# Altium footprint library E33.PcbLib: 1 footprints
Each footprint in its own frame and in the unit in brackets; x right, y up, seen from the top. Pads: shape width x height; smd on the part's side, far side on the other; paste and mask are expansions set on the pad; w line width, h text height; cw(c..) or ccw(c..) is an arc to the next point about the centre after c.
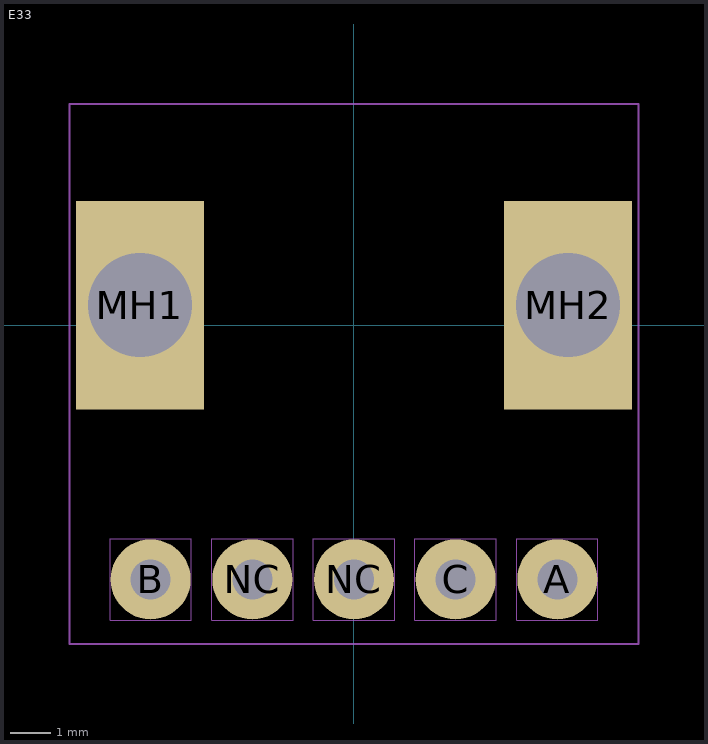
[diagram p0: the footprint, top view; thin cyan lines are the x and y axes]

## E33 [mm]
pads (7):
  round 2 hole 1: A(5.08,-6.35) B(-5.08,-6.35) C(2.54,-6.35) NC(-2.54,-6.35) NC(0,-6.35)
  rect 3.2x5.2 hole 2.6 square: MH1(-5.35,0.5) MH2(5.35,0.5)
Mechanical 5:
  lines w0.025: -6.096,-7.366 -4.064,-7.366 -4.064,-5.334 -6.096,-5.334 -6.096,-7.366 ; -3.556,-7.366 -1.524,-7.366 -1.524,-5.334 -3.556,-5.334 -3.556,-7.366 ; -1.016,-7.366 1.016,-7.366 1.016,-5.334 -1.016,-5.334 -1.016,-7.366 ; 1.524,-7.366 3.556,-7.366 3.556,-5.334 1.524,-5.334 1.524,-7.366 ; 4.064,-7.366 6.096,-7.366 6.096,-5.334 4.064,-5.334 4.064,-7.366
Mechanical 7:
  lines w0.05: -7.112,-7.969 -7.112,5.531 7.112,5.531 7.112,1.394 7.112,-3.832 7.112,-7.969 -7.112,-7.969
Mechanical 9:
  text "'.Designator'" at -5.817,-4.462 h1.02
3D body: height 1, standoff 0, extent -7.112,-7.969 7.112,5.531